# EAGLE library part IC74HC90 (library chuong)
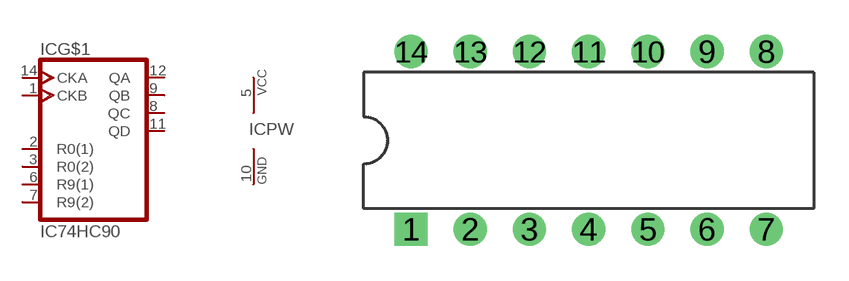
[diagram p47: symbol with the pads of DIL-14; footprint DIL-14]

Designator prefix IC; gates G$1=IC74HC90 PW=POWER

## IC74HC90  [DIL-14]
1  G$1:CKB  in
2  G$1:R0(1)  in
3  G$1:R0(2)  in
5  PW:VCC  pwr
6  G$1:R9(1)  in
7  G$1:R9(2)  in
8  G$1:QC  out
9  G$1:QB  out
10  PW:GND  pwr
11  G$1:QD  out
12  G$1:QA  out
14  G$1:CKA  in

## Footprint DIL-14 (pad centres in mm)
drill 0.61 pad 1.422 square: 1 -7.62,-3.81
drill 0.61 pad 1.422 round: 2 -5.08,-3.81; 3 -2.54,-3.81; 4 0,-3.81; 5 2.54,-3.81; 6 5.08,-3.81; 7 7.62,-3.81; 8 7.62,3.81; 9 5.08,3.81; 10 2.54,3.81; 11 0,3.81; 12 -2.54,3.81; 13 -5.08,3.81; 14 -7.62,3.81